# EAGLE library part FPC-26WAY (library pimoroni-fpc)
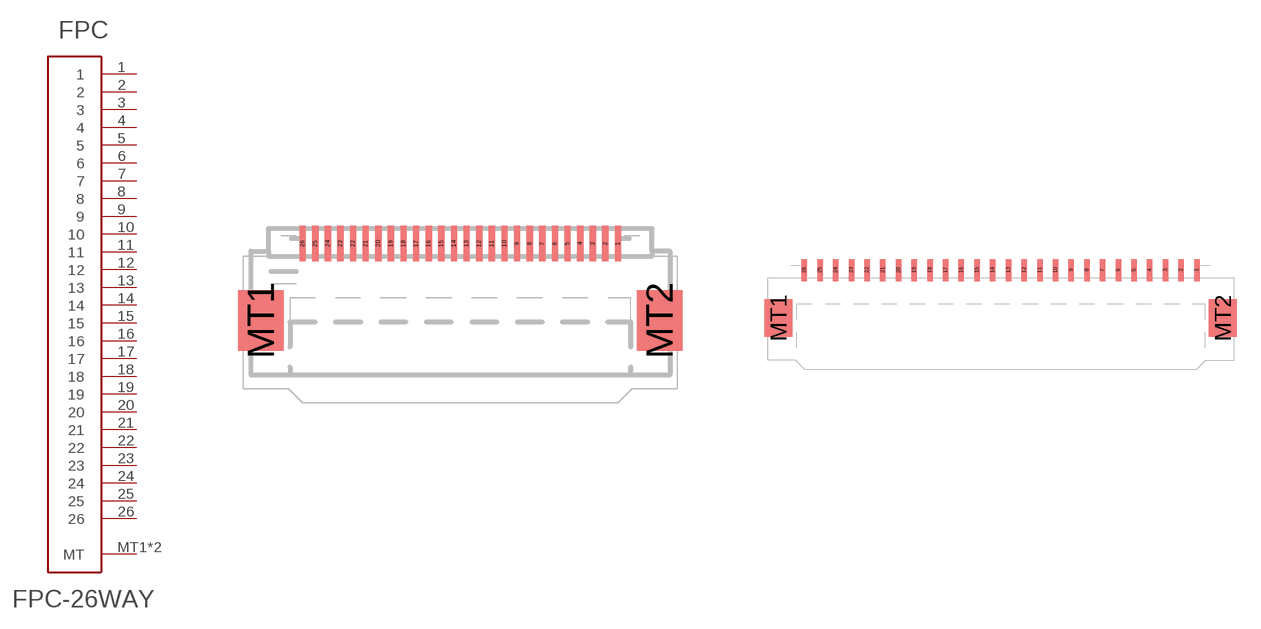
[diagram p21: symbol with the pads of FPC-0.5MM-26WAY; footprints FPC-0.5MM-26WAY, FPC-1.0MM-26WAY]

Designator prefix FPC

## FPC-26WAY0.5  [FPC-0.5MM-26WAY]
1  1
2  2
3  3
4  4
5  5
6  6
7  7
8  8
9  9
10  10
11  11
12  12
13  13
14  14
15  15
16  16
17  17
18  18
19  19
20  20
21  21
22  22
23  23
24  24
25  25
26  26
MT1  MT
MT2  MT

## FPC-26WAY1.0  [FPC-1.0MM-26WAY]
Pads as for FPC-0.5MM-26WAY

## Footprint FPC-0.5MM-26WAY (pad centres in mm)
smd 0.25 x 1.4: 1 6.25,0.7; 2 5.75,0.7; 3 5.25,0.7; 4 4.75,0.7; 5 4.25,0.7; 6 3.75,0.7; 7 3.25,0.7; 8 2.75,0.7; 9 2.25,0.7; 10 1.75,0.7; 11 1.25,0.7; 12 0.75,0.7; 13 0.25,0.7; 14 -0.25,0.7; 15 -0.75,0.7; 16 -1.25,0.7; 17 -1.75,0.7; 18 -2.25,0.7; 19 -2.75,0.7; 20 -3.25,0.7; 21 -3.75,0.7; 22 -4.25,0.7; 23 -4.75,0.7; 24 -5.25,0.7; 25 -5.75,0.7; 26 -6.25,0.7
smd 1.8 x 2.4: MT1 -7.9,-2.35; MT2 7.9,-2.35

## Footprint FPC-1.0MM-26WAY (pad centres in mm)
smd 0.35 x 1.4: 1 12.5,0.7; 2 11.5,0.7; 3 10.5,0.7; 4 9.5,0.7; 5 8.5,0.7; 6 7.5,0.7; 7 6.5,0.7; 8 5.5,0.7; 9 4.5,0.7; 10 3.5,0.7; 11 2.5,0.7; 12 1.5,0.7; 13 0.5,0.7; 14 -0.5,0.7; 15 -1.5,0.7; 16 -2.5,0.7; 17 -3.5,0.7; 18 -4.5,0.7; 19 -5.5,0.7; 20 -6.5,0.7; 21 -7.5,0.7; 22 -8.5,0.7; 23 -9.5,0.7; 24 -10.5,0.7; 25 -11.5,0.7; 26 -12.5,0.7
smd 1.8 x 2.4: MT1 -14.15,-2.35; MT2 14.15,-2.35